# Altium schematic symbol library MCP1702.Schlib: 1 symbol
Pins are listed as number, name and electrical type; pins without a type are passive.

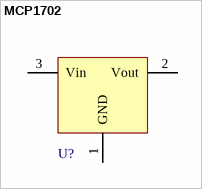
[diagram p0: symbol MCP1702]

## MCP1702
designator U?
13.2V input, 0.25Amp Linear Voltage Regulator
pins: 1 GND (power), 2 Vout (power), 3 Vin (power)